# Altium footprint library Infineon Power MOSFET.PcbLib: 137 footprints (part 6 of 9)
Each footprint in its own frame and in the unit in brackets; x right, y up, seen from the top. Pads: shape width x height; smd on the part's side, far side on the other; paste and mask are expansions set on the pad; w line width, h text height; cw(c..) or ccw(c..) is an arc to the next point about the centre after c.
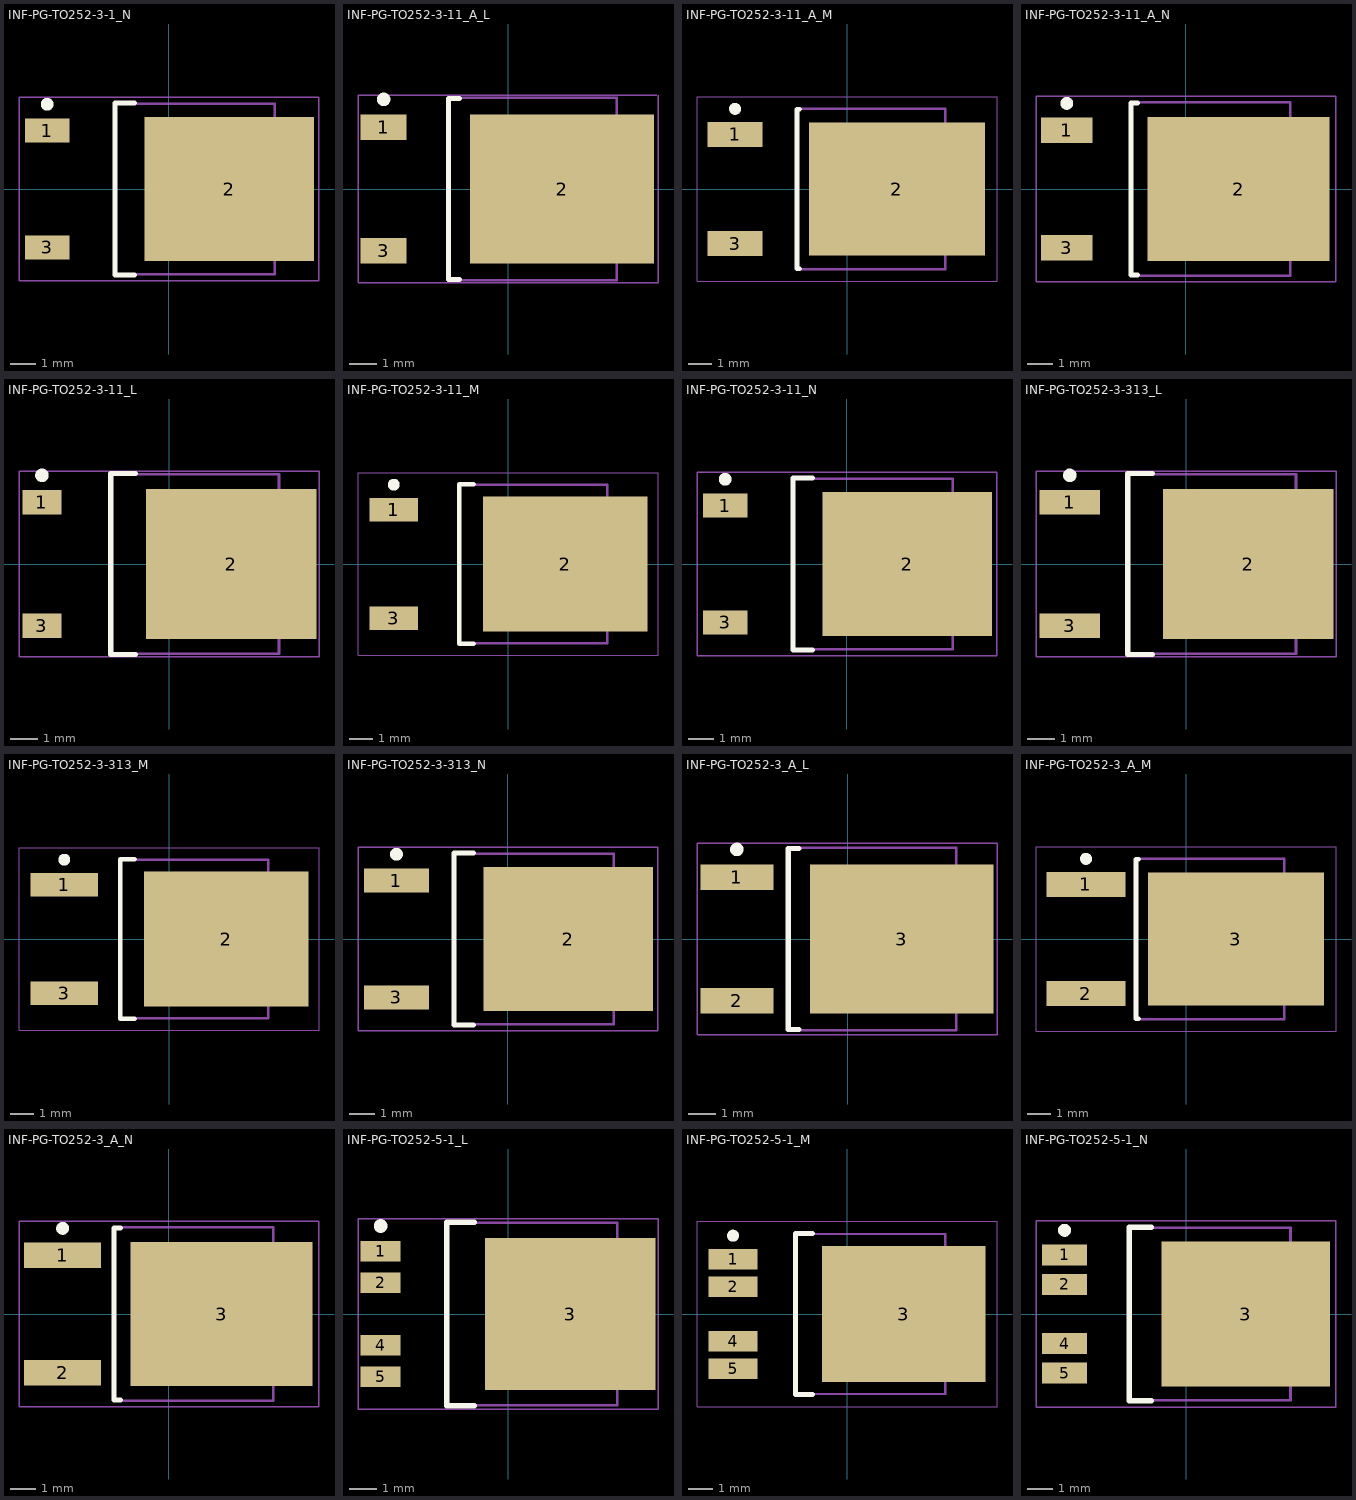
[diagram p5: the footprints below, top view; thin cyan lines are the x and y axes]

## INF-PG-TO252-3-1_N [mm] "DPAK, 3-Leads, Body 6.525x6.12mm, Pitch 2.28mm, IPC Medium Density"
height 2.35
pads (3):
  rect 1.75x0.95 smd: 1(-4.75,2.28) 3(-4.75,-2.28)
  rect 6.6x5.6 smd: 2(2.35,0)
Top Overlay:
  circle w0.25: c-4.75,3.305 r0.125
  lines w0.2: -1.35,-3.35 -2.1,-3.35 -2.1,3.35 -1.35,3.35
Mechanical 13:
  lines w0.1: -2.1,-3.325 -2.1,3.325 4.12,3.325 4.12,-3.325 -2.1,-3.325
Mechanical 15:
  lines w0.05: -5.85,-3.575 -5.85,3.575 5.85,3.575 5.85,-3.575 -5.85,-3.575
  lines w0.1: -0.5,0 0.5,0 ; 0,-0.5 0,0.5
3D body: height 2.35, standoff 0, extent -2.1,-3.325 4.12,3.325

## INF-PG-TO252-3-11_A_L [mm] "DPAK, 3-Leads, Body 6.57x6.1mm, Pitch 2.29mm, IPC High Density"
height 2.41
pads (3):
  rect 1.7x0.95 smd: 1(-4.6,2.29) 3(-4.6,-2.29)
  rect 6.8x5.5 smd: 2(2,0)
Top Overlay:
  circle w0.25: c-4.6,3.315 r0.125
  lines w0.2: -1.8,-3.35 -2.2,-3.35 -2.2,3.35 -1.8,3.35
Mechanical 13:
  lines w0.1: -2.2,-3.375 -2.2,3.375 4.02,3.375 4.02,-3.375 -2.2,-3.375
Mechanical 15:
  lines w0.05: -5.55,3.475 -5.55,-3.475 5.55,-3.475 5.55,3.475
  lines w0.055: -5.55,3.475 5.5,3.475
  lines w0.1: -0.5,0 0.5,0 ; 0,-0.5 0,0.5
3D body: height 2.41, standoff 0, extent -2.2,-3.375 4.02,3.375

## INF-PG-TO252-3-11_A_M [mm] "DPAK, 3-Leads, Body 6.57x6.1mm, Pitch 2.29mm, IPC Low Density"
height 2.41
pads (3):
  rect 2.3x1.05 smd: 1(-4.7,2.29) 3(-4.7,-2.29)
  rect 7.4x5.6 smd: 2(2.1,0)
Top Overlay:
  circle w0.25: c-4.7,3.365 r0.125
  lines w0.2: -2,-3.35 -2.1,-3.35 -2.1,3.35 -2,3.35
Mechanical 13:
  lines w0.1: -2.1,-3.375 4.12,-3.375 4.12,3.375 -2.1,3.375 -2.1,-3.375
Mechanical 15:
  lines w0.05: -6.3,-3.875 6.3,-3.875 6.3,3.875 -6.3,3.875 -6.3,-3.875
  lines w0.1: -0.5,0 0.5,0 ; 0,-0.5 0,0.5
3D body: height 2.41, standoff 0, extent -2.1,-3.375 4.12,3.375

## INF-PG-TO252-3-11_A_N [mm] "DPAK, 3-Leads, Body 6.57x6.1mm, Pitch 2.29mm, IPC Medium Density"
height 2.41
pads (3):
  rect 2x1 smd: 1(-4.65,2.29) 3(-4.65,-2.29)
  rect 7.1x5.6 smd: 2(2.05,0)
Top Overlay:
  circle w0.25: c-4.65,3.34 r0.125
  lines w0.2: -1.9,-3.35 -2.15,-3.35 -2.15,3.35 -1.9,3.35
Mechanical 13:
  lines w0.1: -2.15,-3.375 4.07,-3.375 4.07,3.375 -2.15,3.375 -2.15,-3.375
Mechanical 15:
  lines w0.05: -5.85,-3.625 5.85,-3.625 5.85,3.625 -5.85,3.625 -5.85,-3.625
  lines w0.1: -0.5,0 0.5,0 ; 0,-0.5 0,0.5
3D body: height 2.41, standoff 0, extent -2.15,-3.375 4.07,3.375

## INF-PG-TO252-3-11_L [mm] "DPAK, 3-Leads, Body 6.5x6.12mm, Pitch 2.28mm, IPC High Density"
height 2.35
pads (3):
  rect 1.45x0.9 smd: 1(-4.7,2.28) 3(-4.7,-2.28)
  rect 6.3x5.55 smd: 2(2.3,0)
Top Overlay:
  circle w0.25: c-4.7,3.28 r0.125
  lines w0.2: -1.25,-3.35 -2.15,-3.35 -2.15,3.35 -1.25,3.35
Mechanical 13:
  lines w0.1: -2.15,-3.325 -2.15,3.325 4.07,3.325 4.07,-3.325 -2.15,-3.325
Mechanical 15:
  lines w0.05: -5.55,-3.425 -5.55,3.425 5.55,3.425 5.55,-3.425 -5.55,-3.425
  lines w0.1: -0.5,0 0.5,0 ; 0,-0.5 0,0.5
3D body: height 2.35, standoff 0, extent -2.15,-3.325 4.07,3.325

## INF-PG-TO252-3-11_M [mm] "DPAK, 3-Leads, Body 6.5x6.12mm, Pitch 2.28mm, IPC Low Density"
height 2.35
pads (3):
  rect 2.05x1 smd: 1(-4.8,2.28) 3(-4.8,-2.28)
  rect 6.9x5.65 smd: 2(2.4,0)
Top Overlay:
  circle w0.25: c-4.8,3.33 r0.125
  lines w0.2: -1.45,-3.35 -2.05,-3.35 -2.05,3.35 -1.45,3.35
Mechanical 13:
  lines w0.1: -2.05,-3.325 4.17,-3.325 4.17,3.325 -2.05,3.325 -2.05,-3.325
Mechanical 15:
  lines w0.05: -6.3,-3.825 6.3,-3.825 6.3,3.825 -6.3,3.825 -6.3,-3.825
  lines w0.1: -0.5,0 0.5,0 ; 0,-0.5 0,0.5
3D body: height 2.35, standoff 0, extent -2.05,-3.325 4.17,3.325

## INF-PG-TO252-3-11_N [mm] "DPAK, 3-Leads, Body 6.5x6.12mm, Pitch 2.28mm, IPC Medium Density"
height 2.35
pads (3):
  rect 1.75x0.95 smd: 1(-4.75,2.28) 3(-4.75,-2.28)
  rect 6.6x5.6 smd: 2(2.35,0)
Top Overlay:
  circle w0.25: c-4.75,3.305 r0.125
  lines w0.2: -1.35,-3.35 -2.1,-3.35 -2.1,3.35 -1.35,3.35
Mechanical 13:
  lines w0.1: -2.1,-3.325 4.12,-3.325 4.12,3.325 -2.1,3.325 -2.1,-3.325
Mechanical 15:
  lines w0.05: -5.85,-3.575 5.85,-3.575 5.85,3.575 -5.85,3.575 -5.85,-3.575
  lines w0.1: -0.5,0 0.5,0 ; 0,-0.5 0,0.5
3D body: height 2.35, standoff 0, extent -2.1,-3.325 4.12,3.325

## INF-PG-TO252-3-313_L [mm] "DPAK, 3-Leads, Body 6.5x6.12mm, Pitch 2.28mm, IPC High Density"
height 2.35
pads (3):
  rect 2.25x0.9 smd: 1(-4.3,2.28) 3(-4.3,-2.28)
  rect 6.3x5.55 smd: 2(2.3,0)
Top Overlay:
  circle w0.25: c-4.3,3.28 r0.125
  lines w0.2: -1.25,-3.35 -2.15,-3.35 -2.15,3.35 -1.25,3.35
Mechanical 13:
  lines w0.1: -2.15,-3.325 -2.15,3.325 4.07,3.325 4.07,-3.325 -2.15,-3.325
Mechanical 15:
  lines w0.05: -5.55,-3.425 -5.55,3.425 5.55,3.425 5.55,-3.425 -5.55,-3.425
  lines w0.1: -0.5,0 0.5,0 ; 0,-0.5 0,0.5
3D body: height 2.35, standoff 0, extent -2.15,-3.325 4.07,3.325

## INF-PG-TO252-3-313_M [mm] "DPAK, 3-Leads, Body 6.5x6.12mm, Pitch 2.28mm, IPC Low Density"
height 2.35
pads (3):
  rect 2.85x1 smd: 1(-4.4,2.28) 3(-4.4,-2.28)
  rect 6.9x5.65 smd: 2(2.4,0)
Top Overlay:
  circle w0.25: c-4.4,3.33 r0.125
  lines w0.2: -1.45,-3.35 -2.05,-3.35 -2.05,3.35 -1.45,3.35
Mechanical 13:
  lines w0.1: -2.05,-3.325 4.17,-3.325 4.17,3.325 -2.05,3.325 -2.05,-3.325
Mechanical 15:
  lines w0.05: -6.3,-3.825 6.3,-3.825 6.3,3.825 -6.3,3.825 -6.3,-3.825
  lines w0.1: -0.5,0 0.5,0 ; 0,-0.5 0,0.5
3D body: height 2.35, standoff 0, extent -2.05,-3.325 4.17,3.325

## INF-PG-TO252-3-313_N [mm] "DPAK, 3-Leads, Body 6.5x6.12mm, Pitch 2.28mm, IPC Medium Density"
height 2.35
pads (3):
  rect 2.55x0.95 smd: 1(-4.35,2.28) 3(-4.35,-2.28)
  rect 6.6x5.6 smd: 2(2.35,0)
Top Overlay:
  circle w0.25: c-4.35,3.305 r0.125
  lines w0.2: -1.35,-3.35 -2.1,-3.35 -2.1,3.35 -1.35,3.35
Mechanical 13:
  lines w0.1: -2.1,-3.325 4.12,-3.325 4.12,3.325 -2.1,3.325 -2.1,-3.325
Mechanical 15:
  lines w0.05: -5.85,-3.575 5.85,-3.575 5.85,3.575 -5.85,3.575 -5.85,-3.575
  lines w0.1: -0.5,0 0.5,0 ; 0,-0.5 0,0.5
3D body: height 2.35, standoff 0, extent -2.1,-3.325 4.12,3.325

## INF-PG-TO252-3_A_L [mm] "DPAK, 3-Leads, Body 6.565x6.095mm, Pitch 2.29mm, IPC High Density"
height 2.41
pads (3):
  rect 2.7x0.95 smd: 1(-4.1,2.29) 2(-4.1,-2.29)
  rect 6.8x5.5 smd: 3(2,0)
Top Overlay:
  circle w0.25: c-4.1,3.315 r0.125
  lines w0.2: -1.8,-3.35 -2.2,-3.35 -2.2,3.35 -1.8,3.35
Mechanical 13:
  lines w0.1: -2.2,-3.375 -2.2,3.375 4.02,3.375 4.02,-3.375 -2.2,-3.375
Mechanical 15:
  lines w0.05: -5.575,-3.55 -5.575,3.55 5.525,3.55 5.525,-3.55 -5.575,-3.55
  lines w0.1: -0.5,0 0.5,0 ; 0,-0.5 0,0.5
3D body: height 2.41, standoff 0, extent -2.2,-3.375 4.02,3.375

## INF-PG-TO252-3_A_M [mm] "DPAK, 3-Leads, Body 6.565x6.095mm, Pitch 2.29mm, IPC Low Density"
height 2.41
pads (3):
  rect 3.3x1.05 smd: 1(-4.2,2.29) 2(-4.2,-2.29)
  rect 7.4x5.6 smd: 3(2.1,0)
Top Overlay:
  circle w0.25: c-4.2,3.365 r0.125
  lines w0.2: -2,-3.35 -2.1,-3.35 -2.1,3.35 -2,3.35
Mechanical 13:
  lines w0.1: -2.1,-3.375 4.12,-3.375 4.12,3.375 -2.1,3.375 -2.1,-3.375
Mechanical 15:
  lines w0.05: -6.3,-3.875 6.3,-3.875 6.3,3.875 -6.3,3.875 -6.3,-3.875
  lines w0.1: -0.5,0 0.5,0 ; 0,-0.5 0,0.5
3D body: height 2.41, standoff 0, extent -2.1,-3.375 4.12,3.375

## INF-PG-TO252-3_A_N [mm] "DPAK, 3-Leads, Body 6.565x6.095mm, Pitch 2.29mm, IPC Medium Density"
height 2.41
pads (3):
  rect 3x1 smd: 1(-4.15,2.29) 2(-4.15,-2.29)
  rect 7.1x5.6 smd: 3(2.05,0)
Top Overlay:
  circle w0.25: c-4.15,3.34 r0.125
  lines w0.2: -1.9,-3.35 -2.15,-3.35 -2.15,3.35 -1.9,3.35
Mechanical 13:
  lines w0.1: -2.15,-3.375 4.07,-3.375 4.07,3.375 -2.15,3.375 -2.15,-3.375
Mechanical 15:
  lines w0.05: -5.85,-3.625 5.85,-3.625 5.85,3.625 -5.85,3.625 -5.85,-3.625
  lines w0.1: -0.5,0 0.5,0 ; 0,-0.5 0,0.5
3D body: height 2.41, standoff 0, extent -2.15,-3.375 4.07,3.375

## INF-PG-TO252-5-1_L [mm] "DPAK, 5-Leads, Body 6.5x6.12mm, Pitch 1.14mm, IPC High Density"
height 2.35
pads (5):
  rect 1.45x0.75 smd: 1(-4.65,2.28) 2(-4.65,1.14) 4(-4.65,-1.14) 5(-4.65,-2.28)
  rect 6.2x5.55 smd: 3(2.25,0)
Top Overlay:
  circle w0.25: c-4.65,3.205 r0.125
  lines w0.2: -1.25,-3.35 -2.25,-3.35 -2.25,3.35 -1.25,3.35
Mechanical 13:
  lines w0.1: -2.25,-3.325 -2.25,3.325 3.97,3.325 3.97,-3.325 -2.25,-3.325
Mechanical 15:
  lines w0.05: -5.475,-3.475 -5.475,3.475 5.45,3.475 5.45,-3.475 -5.475,-3.475
  lines w0.1: -0.5,0 0.5,0 ; 0,-0.5 0,0.5
3D body: height 2.35, standoff 0, extent -2.25,-3.325 3.97,3.325

## INF-PG-TO252-5-1_M [mm] "DPAK, 5-Leads, Body 6.5x6.12mm, Pitch 1.14mm, IPC Low Density"
height 2.35
pads (5):
  rect 2.05x0.85 smd: 1(-4.75,2.28) 2(-4.75,1.14) 4(-4.75,-1.14) 5(-4.75,-2.28)
  rect 6.8x5.65 smd: 3(2.35,0)
Top Overlay:
  circle w0.25: c-4.75,3.255 r0.125
  lines w0.2: -1.45,-3.35 -2.15,-3.35 -2.15,3.35 -1.45,3.35
Mechanical 13:
  lines w0.1: -2.15,-3.325 -2.15,3.325 4.07,3.325 4.07,-3.325 -2.15,-3.325
Mechanical 15:
  lines w0.05: -6.25,-3.85 -6.25,3.85 6.225,3.85 6.225,-3.85 -6.25,-3.85
  lines w0.1: -0.5,0 0.5,0 ; 0,-0.5 0,0.5
3D body: height 2.35, standoff 0, extent -2.15,-3.325 4.07,3.325

## INF-PG-TO252-5-1_N [mm] "DPAK, 5-Leads, Body 6.5x6.12mm, Pitch 1.14mm, IPC Medium Density"
height 2.35
pads (5):
  rect 1.75x0.8 smd: 1(-4.7,2.28) 2(-4.7,1.14) 4(-4.7,-1.14) 5(-4.7,-2.28)
  rect 6.5x5.6 smd: 3(2.3,0)
Top Overlay:
  circle w0.25: c-4.7,3.23 r0.125
  lines w0.2: -1.35,-3.35 -2.2,-3.35 -2.2,3.35 -1.35,3.35
Mechanical 13:
  lines w0.1: -2.2,-3.325 -2.2,3.325 4.02,3.325 4.02,-3.325 -2.2,-3.325
Mechanical 15:
  lines w0.05: -5.8,-3.6 -5.8,3.6 5.775,3.6 5.775,-3.6 -5.8,-3.6
  lines w0.1: -0.5,0 0.5,0 ; 0,-0.5 0,0.5
3D body: height 2.35, standoff 0, extent -2.2,-3.325 4.02,3.325